# Altium footprint library SON127P600X800X80-9N.PcbLib: 1 footprints
Each footprint in its own frame and in the unit in brackets; x right, y up, seen from the top. Pads: shape width x height; smd on the part's side, far side on the other; paste and mask are expansions set on the pad; w line width, h text height; cw(c..) or ccw(c..) is an arc to the next point about the centre after c.
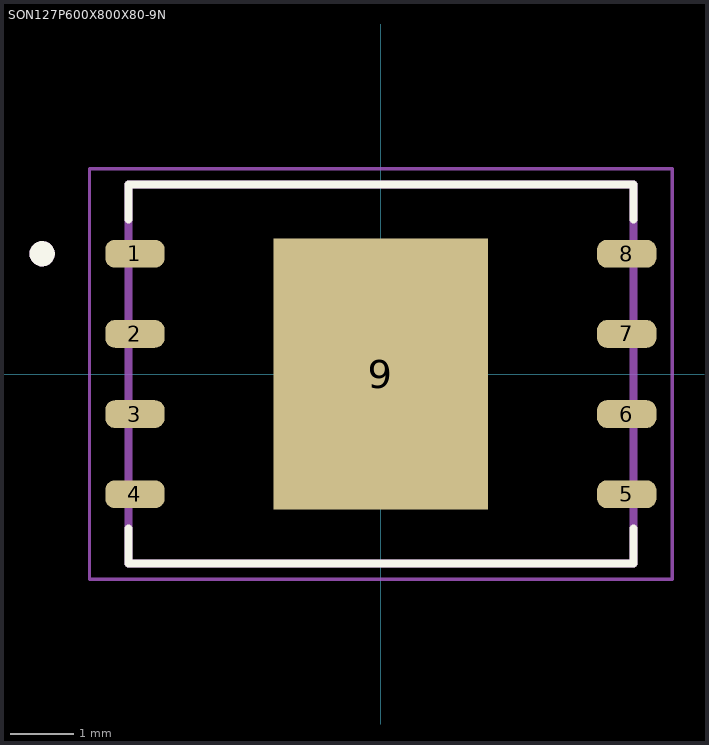
[diagram p0: the footprint, top view; thin cyan lines are the x and y axes]

## SON127P600X800X80-9N [mm]
height 0.8
pads (9):
  rrect70% 0.94x0.44 smd: 1(-3.895,1.905) 2(-3.895,0.635) 3(-3.895,-0.635) 4(-3.895,-1.905) 5(3.895,-1.905) 6(3.895,-0.635) 7(3.895,0.635) 8(3.895,1.905)
  rect 3.4x4.3 smd paste-3: 9(0,0)
Top Overlay:
  circle w0.2: c-5.365,1.905 r0.1
  lines w0.127: -4,-2.445 -4,-3 4,-3 4,-2.445 ; -4,2.445 -4,3 4,3 4,2.445
Top Paste:
  region: 1.075,-1.36 -1.075,-1.36 -1.075,1.36 1.075,1.36
Mechanical 13:
  circle w0.2: c-5.365,1.905 r0.1
  lines w0.127: -4,-3 4,-3 4,3 -4,3 -4,-3
Mechanical 15:
  lines w0.05: -4.615,-3.25 -4.615,3.25 4.615,3.25 4.615,-3.25 -4.615,-3.25
3D body "step_temp.STEP": height 0.8, standoff 0, extent -4,-3 4,3